# Altium schematic symbol library 35RAPC5CHWNSN.SchLib: 1 symbol
Pins are listed as number, name and electrical type; pins without a type are passive.

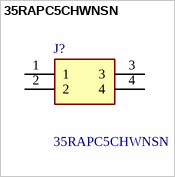
[diagram p0: symbol 35RAPC5CHWNSN]

## 35RAPC5CHWNSN
designator J?
Phone Connectors 3.5MM RAPC Jack, Wide Body, TRRS, No Switch; Manufacturer_Name: Switchcraft; Geometry.Height: 5.5mm; Mouser Part Number: 502-35RAPC5CHWNSN; Mouser Price/Stock: https://www.mouser.co.uk/ProductDetail/Switchcraft/35RAPC5CHWNSN?qs=tlsG%2FOw5FFhDrydSbX%252BonQ%3D%3D; Manufacturer_Part_Number: 35RAPC5CHWNSN; Datasheet Link: https://www.switchcraft.com/assets/1/6/35RAPC5CHWNSN_CD.pdf
footprint 35RAPC5CHWNSN
pins: 1, 2, 3, 4